# Altium footprint library PinRepairFootprints.PcbLib: 11 footprints
Each footprint in its own frame and in the unit in brackets; x right, y up, seen from the top. Pads: shape width x height; smd on the part's side, far side on the other; paste and mask are expansions set on the pad; w line width, h text height; cw(c..) or ccw(c..) is an arc to the next point about the centre after c.
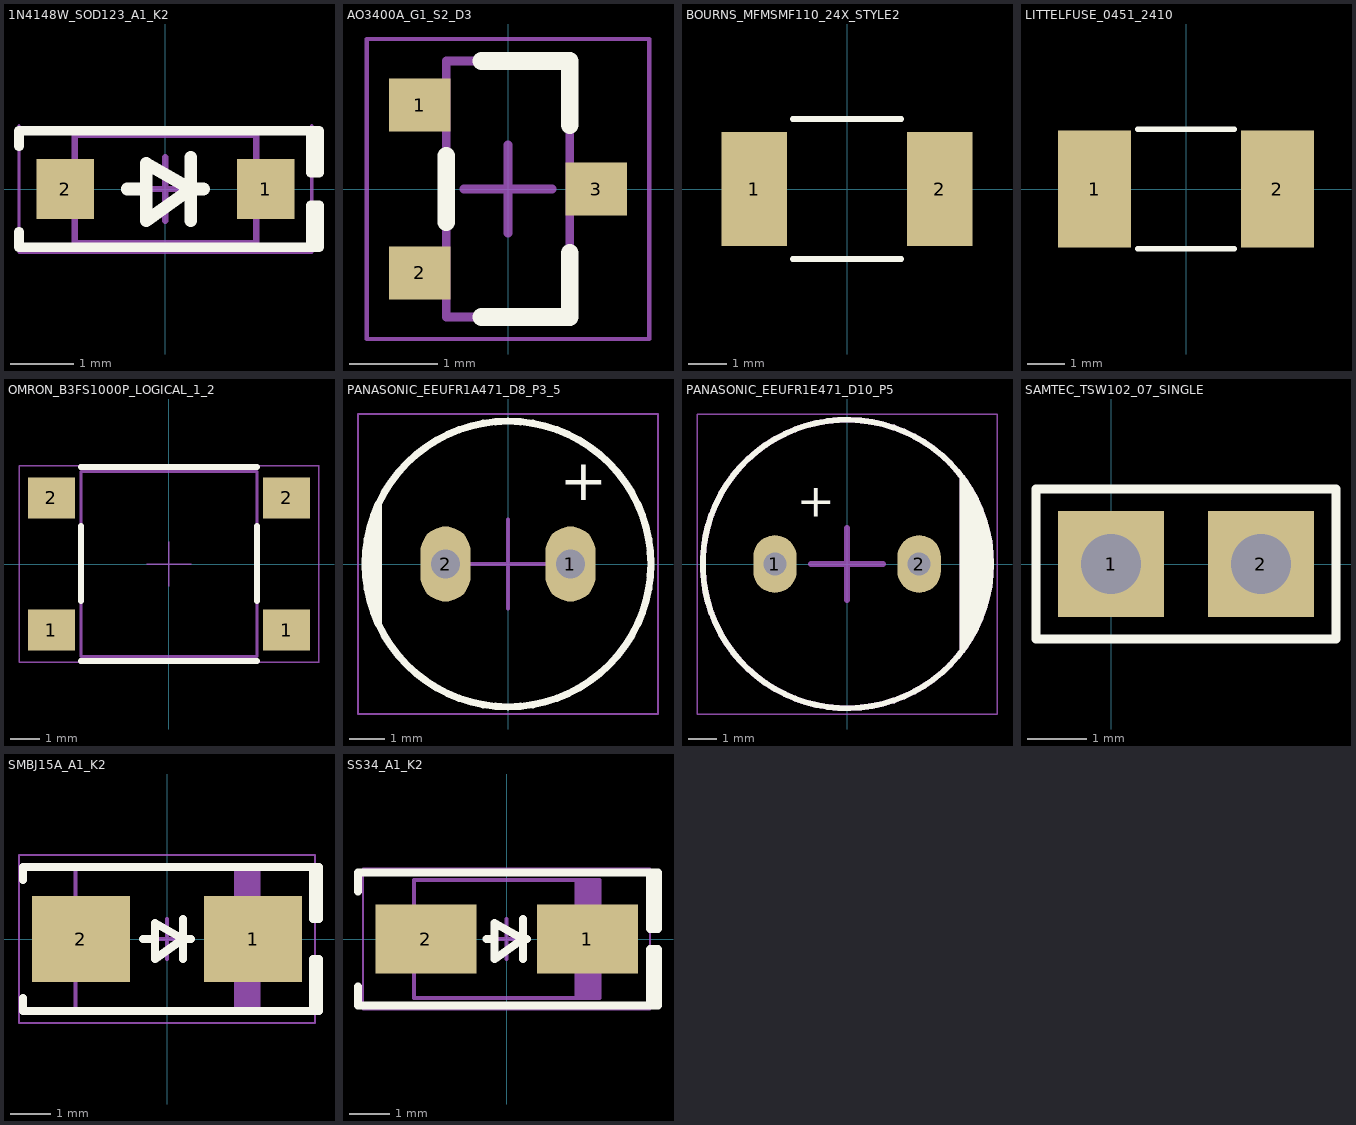
[diagram p0: the footprints below, top view; thin cyan lines are the x and y axes]

## 1N4148W_SOD123_A1_K2 [mm] "Pin-repair library; see docs/PIN_REPAIR.html for source and mapping"
pads (2):
  rect 0.9x0.95 smd: 1(1.575,0) 2(-1.575,0)
Top Overlay:
  lines w0.15: -2.3,-0.675 -2.3,-0.916 2.286,-0.916 ; -2.3,0.675 -2.3,0.916 2.286,0.916 ; 2.286,-0.916 2.413,-0.916 2.413,-0.254 2.286,-0.254 2.286,-0.916 ; 2.286,0.916 2.286,0.254 2.413,0.254 2.413,0.916 2.286,0.916
  lines w0.2: -0.6,0 -0.3,0 ; 0.4,-0.5 0.4,0.5 ; 0.6,0 0.4,0 ; 0.4,0 -0.3,0.4 -0.3,-0.5 0.4,0
Mechanical 13:
  lines w0.1: -1.425,-0.85 -1.425,0.85 1.425,0.85 1.425,-0.85 -1.425,-0.85
Mechanical 15:
  lines w0.05: -2.3,0.9 2.3,0.9 ; -2.3,1 -2.3,-1 2.3,-1 2.3,1
  lines w0.1: -0.5,0 0.5,0 ; 0,-0.5 0,0.5
3D body "SOD-123.STEP": height 1.35, standoff 0, extent -1.864,-0.775 1.864,0.775

## AO3400A_G1_S2_D3 [mm] "Pin-repair library; see docs/PIN_REPAIR.html for source and mapping"
pads (3):
  rect 0.7x0.6 smd: 1(-1,0.95) 2(-1,-0.95) 3(1,0)
Top Overlay:
  lines w0.2: -0.7,-0.375 -0.7,0.375 ; -0.3,-1.45 0.7,-1.45 0.7,-0.725 ; -0.3,1.45 0.7,1.45 0.7,0.725
Mechanical 13:
  lines w0.1: -0.7,-1.45 -0.7,1.45 0.7,1.45 0.7,-1.45 -0.7,-1.45
Mechanical 15:
  lines w0.05: -1.6,-1.7 -1.6,1.7 1.6,1.7 1.6,-1.7 -1.6,-1.7
  lines w0.1: -0.5,0 0.5,0 ; 0,-0.5 0,0.5
3D body "sot-23-3-nxp.STEP": height 1.5, standoff 0, extent -1.16,-1.45 1.16,1.45

## BOURNS_MFMSMF110_24X_STYLE2 [mm] "Pin-repair library; see docs/PIN_REPAIR.html for source and mapping"
height 1.6
pads (2):
  rect 1.68x2.95 smd: 1(-2.39,0) 2(2.39,0)
Top Overlay:
  lines w0.15: -1.4,-1.8 1.4,-1.8 ; -1.4,1.8 1.4,1.8

## LITTELFUSE_0451_2410 [mm] "Pin-repair library; see docs/PIN_REPAIR.html for source and mapping"
height 2.94
pads (2):
  rect 1.96x3.15 smd: 1(-2.455,0) 2(2.455,0)
Top Overlay:
  lines w0.15: -1.3,-1.6 1.3,-1.6 ; -1.3,1.6 1.3,1.6

## OMRON_B3FS1000P_LOGICAL_1_2 [mm] "Pin-repair library; see docs/PIN_REPAIR.html for source and mapping"
height 3.3
pads (4):
  rect 1.6x1.4 smd: 1(-4,-2.25) 1(4,-2.25) 2(-4,2.25) 2(4,2.25)
Top Overlay:
  lines w0.2: -3,-3.3 3,-3.3 ; -3,3.3 3,3.3 ; -2.997,-1.253 -2.997,1.296 ; 2.997,-1.253 2.997,1.296
Mechanical 13:
  lines w0.1: -2.988,-3.15 2.989,-3.15 2.989,3.152 -2.988,3.152 -2.988,-3.15
Mechanical 15:
  lines w0.05: -0.762,0 0.762,0 ; 0,-0.762 0,0.762 ; 5.102,-3.35 5.102,3.35 ; 5.104,-3.35 -5.102,-3.35 -5.102,3.35 -5.051,3.35 5.104,3.35

## PANASONIC_EEUFR1A471_D8_P3_5 [mm] "Pin-repair library; see docs/PIN_REPAIR.html for source and mapping"
pads (2):
  oval 1.4x2.1 hole 0.8: 1(1.75,0) 2(-1.75,0)
Top Overlay:
  circle w0.2: c0,0 r4
  region: -3.625,-1.69 -3.718,-1.493 -3.858,-1.079 -3.952,-0.653 -4,-0.218 -4,0.218 -3.952,0.653 -3.858,1.079 -3.718,1.493 -3.625,1.69
  lines w0.2: -3.625,-1.69 cw(c0,0) -3.625,1.69 -3.625,-1.69
  text "+" at 1.45,1.4 h2
Mechanical 13:
  circle w0.1: c0,0 r4
  lines w0.1: -3.625,-1.69 -3.625,1.69
Mechanical 15:
  lines w0.05: -4.2,-4.2 4.2,-4.2 4.2,4.2 -4.2,4.2 -4.2,-4.2
  lines w0.1: -1.25,0 0,0 ; 0,-1.25 0,0 ; 0,1.25 0,0 ; 1.25,0 0,0
3D body "Cap TH D8.00mm H11.50mm L3.50mm.step": height 11.5, standoff -2.5, extent -4.008,-3.999 4,3.999

## PANASONIC_EEUFR1E471_D10_P5 [mm] "Pin-repair library; see docs/PIN_REPAIR.html for source and mapping"
pads (2):
  oval 1.5x2 hole 0.8: 1(-2.5,0) 2(2.5,0)
Top Overlay:
  circle w0.2: c0,0 r5
  region: 4,3 4.5,2.25 5,0.75 5,-0.75 4.75,-1.5 4.25,-2.75 4,-3
  lines w0.2: 4,-3 4,3
  text "+" at -1.75,1.25 h2
Mechanical 13:
  circle w0.2: c0,0 r5
  lines w0.2: 4,-3 4,3
Mechanical 15:
  lines w0.05: -5.2,-5.2 5.2,-5.2 5.2,5.2 -5.2,5.2 -5.2,-5.2
  lines w0.2: -1.25,0 1.25,0 ; 0,-1.25 0,1.25
3D body "CAP ALTH D-10MM L-5.0MM H-12.5MM.STEP": height 12.7, standoff -3, extent -5,-4.999 5,4.999

## PCBComponent_1 [mm]

## SAMTEC_TSW102_07_SINGLE [mm] "Pin-repair library; see docs/PIN_REPAIR.html for source and mapping"
height 8.5
pads (2):
  rect 1.8x1.8 hole 1.02: 1(0,0) 2(2.54,0)
Top Overlay:
  lines w0.15: -1.27,-1.27 -1.27,1.27 3.81,1.27 3.81,-1.27 -1.27,-1.27

## SMBJ15A_A1_K2 [mm] "Pin-repair library; see docs/PIN_REPAIR.html for source and mapping"
pads (2):
  rect 2.45x2.15 smd: 1(2.15,0) 2(-2.15,0)
Top Overlay:
  lines w0.2: -3.6,-1.475 -3.6,-1.8 3.8,-1.8 3.8,-0.5 3.65,-0.5 3.65,-1.8 ; -3.6,1.475 -3.6,1.8 3.8,1.8 3.8,0.5 3.65,0.5 3.65,1.8 ; -0.6,0 -0.3,0 ; 0.4,-0.5 0.4,0.5 ; 0.6,0 0.4,0 ; 0.4,0 -0.3,0.4 -0.3,-0.5 0.4,0
Mechanical 13:
  rectangle: 1.67,-1.8 2.285,1.8
  lines w0.1: -2.285,-1.8 2.285,-1.8 2.285,1.8 -2.285,1.8 -2.285,-1.8
Mechanical 15:
  lines w0.05: -3.7,-2.1 3.7,-2.1 3.7,2.1 -3.7,2.1 -3.7,-2.1
  lines w0.1: -0.5,0 0.5,0 ; 0,-0.5 0,0.5
3D body "SMB.STEP": height 2.4, standoff 0, extent -2.6,-1.8 2.6,1.8

## SS34_A1_K2 [mm] "Pin-repair library; see docs/PIN_REPAIR.html for source and mapping"
pads (2):
  rect 2.5x1.7 smd: 1(2,0) 2(-2,0)
Top Overlay:
  lines w0.2: -3.683,-1.175 -3.683,-1.651 3.75,-1.651 3.75,-0.254 3.556,-0.254 3.556,-1.651 ; -3.683,1.175 -3.683,1.651 3.75,1.651 3.75,0.254 3.556,0.254 3.556,1.651 ; -0.5,0 -0.3,0 ; 0.4,-0.5 0.4,0.5 ; 0.5,0 0.4,0 ; 0.4,0 -0.3,0.4 -0.3,-0.5 0.4,0
Mechanical 13:
  rectangle: 1.681,-1.46 2.3,1.46
  lines w0.1: -2.3,-1.46 -2.3,1.46 2.3,1.46 2.3,-1.46 -2.3,-1.46
Mechanical 15:
  lines w0.05: -3.556,-1.75 -3.556,1.75 3.556,1.75 3.556,-1.75 -3.556,-1.75
  lines w0.1: -0.5,0 0.5,0 ; 0,-0.5 0,0.5
3D body "SMA.STEP": height 2.4, standoff 0, extent -2.6,-1.375 2.6,1.375